# Altium footprint library BGA (1.5mm Pitch, Square4).PcbLib: 12 footprints (part 3 of 4)
Each footprint in its own frame and in the unit in brackets; x right, y up, seen from the top. Pads: shape width x height; smd on the part's side, far side on the other; paste and mask are expansions set on the pad; w line width, h text height; cw(c..) or ccw(c..) is an arc to the next point about the centre after c.
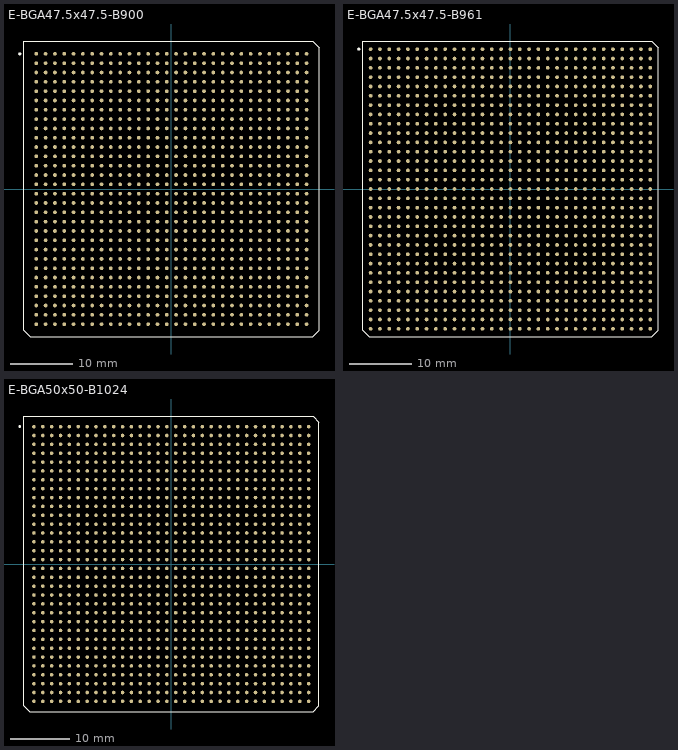
[diagram p2: the footprints below, top view; thin cyan lines are the x and y axes]

## E-BGA47.5x47.5-B900 [mm] "BGA; 900 Balls; Body 47.5 x 47.5 mm; Pitch 1.5 mm"
height 3.5
pads (900):
  round 0.6 smd: A1(-21.75,21.75) A2(-20.25,21.75) A3(-18.75,21.75) A4(-17.25,21.75) A5(-15.75,21.75) A6(-14.25,21.75) A7(-12.75,21.75) A8(-11.25,21.75) A9(-9.75,21.75) A10(-8.25,21.75) A11(-6.75,21.75) A12(-5.25,21.75) A13(-3.75,21.75) A14(-2.25,21.75) A15(-0.75,21.75) A16(0.75,21.75) A17(2.25,21.75) A18(3.75,21.75) A19(5.25,21.75) A20(6.75,21.75) A21(8.25,21.75) A22(9.75,21.75) A23(11.25,21.75) A24(12.75,21.75) A25(14.25,21.75) A26(15.75,21.75) A27(17.25,21.75) A28(18.75,21.75) A29(20.25,21.75) A30(21.75,21.75) AA1(-21.75,-8.25) AA2(-20.25,-8.25) AA3(-18.75,-8.25) AA4(-17.25,-8.25) AA5(-15.75,-8.25) AA6(-14.25,-8.25) AA7(-12.75,-8.25) AA8(-11.25,-8.25) AA9(-9.75,-8.25) AA10(-8.25,-8.25) AA11(-6.75,-8.25) AA12(-5.25,-8.25) AA13(-3.75,-8.25) AA14(-2.25,-8.25) AA15(-0.75,-8.25) AA16(0.75,-8.25) AA17(2.25,-8.25) AA18(3.75,-8.25) AA19(5.25,-8.25) AA20(6.75,-8.25) AA21(8.25,-8.25) AA22(9.75,-8.25) AA23(11.25,-8.25) AA24(12.75,-8.25) AA25(14.25,-8.25) AA26(15.75,-8.25) AA27(17.25,-8.25) AA28(18.75,-8.25) AA29(20.25,-8.25) AA30(21.75,-8.25) AB1(-21.75,-9.75) AB2(-20.25,-9.75) AB3(-18.75,-9.75) AB4(-17.25,-9.75) AB5(-15.75,-9.75) AB6(-14.25,-9.75) AB7(-12.75,-9.75) AB8(-11.25,-9.75) AB9(-9.75,-9.75) AB10(-8.25,-9.75) AB11(-6.75,-9.75) AB12(-5.25,-9.75) AB13(-3.75,-9.75) AB14(-2.25,-9.75) AB15(-0.75,-9.75) AB16(0.75,-9.75) AB17(2.25,-9.75) AB18(3.75,-9.75) AB19(5.25,-9.75) AB20(6.75,-9.75) AB21(8.25,-9.75) AB22(9.75,-9.75) AB23(11.25,-9.75) AB24(12.75,-9.75) AB25(14.25,-9.75) AB26(15.75,-9.75) AB27(17.25,-9.75) AB28(18.75,-9.75) AB29(20.25,-9.75) AB30(21.75,-9.75) AC1(-21.75,-11.25) AC2(-20.25,-11.25) AC3(-18.75,-11.25) AC4(-17.25,-11.25) AC5(-15.75,-11.25) AC6(-14.25,-11.25) AC7(-12.75,-11.25) AC8(-11.25,-11.25) AC9(-9.75,-11.25) AC10(-8.25,-11.25) AC11(-6.75,-11.25) AC12(-5.25,-11.25) AC13(-3.75,-11.25) AC14(-2.25,-11.25) AC15(-0.75,-11.25) AC16(0.75,-11.25) AC17(2.25,-11.25) AC18(3.75,-11.25) AC19(5.25,-11.25) AC20(6.75,-11.25) AC21(8.25,-11.25) AC22(9.75,-11.25) AC23(11.25,-11.25) AC24(12.75,-11.25) AC25(14.25,-11.25) AC26(15.75,-11.25) AC27(17.25,-11.25) AC28(18.75,-11.25) AC29(20.25,-11.25) AC30(21.75,-11.25) AD1(-21.75,-12.75) AD2(-20.25,-12.75) AD3(-18.75,-12.75) AD4(-17.25,-12.75) AD5(-15.75,-12.75) AD6(-14.25,-12.75) AD7(-12.75,-12.75) AD8(-11.25,-12.75) AD9(-9.75,-12.75) AD10(-8.25,-12.75) AD11(-6.75,-12.75) AD12(-5.25,-12.75) AD13(-3.75,-12.75) AD14(-2.25,-12.75) AD15(-0.75,-12.75) AD16(0.75,-12.75) AD17(2.25,-12.75) AD18(3.75,-12.75) AD19(5.25,-12.75) AD20(6.75,-12.75) AD21(8.25,-12.75) AD22(9.75,-12.75) AD23(11.25,-12.75) AD24(12.75,-12.75) AD25(14.25,-12.75) AD26(15.75,-12.75) AD27(17.25,-12.75) AD28(18.75,-12.75) AD29(20.25,-12.75) AD30(21.75,-12.75) AE1(-21.75,-14.25) AE2(-20.25,-14.25) AE3(-18.75,-14.25) AE4(-17.25,-14.25) AE5(-15.75,-14.25) AE6(-14.25,-14.25) AE7(-12.75,-14.25) AE8(-11.25,-14.25) AE9(-9.75,-14.25) AE10(-8.25,-14.25) AE11(-6.75,-14.25) AE12(-5.25,-14.25) AE13(-3.75,-14.25) AE14(-2.25,-14.25) AE15(-0.75,-14.25) AE16(0.75,-14.25) AE17(2.25,-14.25) AE18(3.75,-14.25) AE19(5.25,-14.25) AE20(6.75,-14.25) AE21(8.25,-14.25) AE22(9.75,-14.25) AE23(11.25,-14.25) AE24(12.75,-14.25) AE25(14.25,-14.25) AE26(15.75,-14.25) AE27(17.25,-14.25) AE28(18.75,-14.25) AE29(20.25,-14.25) AE30(21.75,-14.25) AF1(-21.75,-15.75) AF2(-20.25,-15.75) AF3(-18.75,-15.75) AF4(-17.25,-15.75) AF5(-15.75,-15.75) AF6(-14.25,-15.75) AF7(-12.75,-15.75) AF8(-11.25,-15.75) AF9(-9.75,-15.75) AF10(-8.25,-15.75) AF11(-6.75,-15.75) AF12(-5.25,-15.75) AF13(-3.75,-15.75) AF14(-2.25,-15.75) AF15(-0.75,-15.75) AF16(0.75,-15.75) AF17(2.25,-15.75) AF18(3.75,-15.75) AF19(5.25,-15.75) AF20(6.75,-15.75) AF21(8.25,-15.75) AF22(9.75,-15.75) AF23(11.25,-15.75) AF24(12.75,-15.75) AF25(14.25,-15.75) AF26(15.75,-15.75) AF27(17.25,-15.75) AF28(18.75,-15.75) AF29(20.25,-15.75) AF30(21.75,-15.75) AG1(-21.75,-17.25) AG2(-20.25,-17.25) AG3(-18.75,-17.25) AG4(-17.25,-17.25) AG5(-15.75,-17.25) AG6(-14.25,-17.25) AG7(-12.75,-17.25) AG8(-11.25,-17.25) AG9(-9.75,-17.25) AG10(-8.25,-17.25) AG11(-6.75,-17.25) AG12(-5.25,-17.25) AG13(-3.75,-17.25) AG14(-2.25,-17.25) AG15(-0.75,-17.25) AG16(0.75,-17.25) AG17(2.25,-17.25) AG18(3.75,-17.25) AG19(5.25,-17.25) AG20(6.75,-17.25) AG21(8.25,-17.25) AG22(9.75,-17.25) AG23(11.25,-17.25) AG24(12.75,-17.25) AG25(14.25,-17.25) AG26(15.75,-17.25) AG27(17.25,-17.25) AG28(18.75,-17.25) AG29(20.25,-17.25) AG30(21.75,-17.25) AH1(-21.75,-18.75) AH2(-20.25,-18.75) AH3(-18.75,-18.75) AH4(-17.25,-18.75) AH5(-15.75,-18.75) AH6(-14.25,-18.75) AH7(-12.75,-18.75) AH8(-11.25,-18.75) AH9(-9.75,-18.75) AH10(-8.25,-18.75) AH11(-6.75,-18.75) AH12(-5.25,-18.75) AH13(-3.75,-18.75) AH14(-2.25,-18.75) AH15(-0.75,-18.75) AH16(0.75,-18.75) AH17(2.25,-18.75) AH18(3.75,-18.75) AH19(5.25,-18.75) AH20(6.75,-18.75) AH21(8.25,-18.75) AH22(9.75,-18.75) AH23(11.25,-18.75) AH24(12.75,-18.75) AH25(14.25,-18.75) AH26(15.75,-18.75) AH27(17.25,-18.75) AH28(18.75,-18.75) AH29(20.25,-18.75) AH30(21.75,-18.75) AJ1(-21.75,-20.25) AJ2(-20.25,-20.25) AJ3(-18.75,-20.25) AJ4(-17.25,-20.25) AJ5(-15.75,-20.25) AJ6(-14.25,-20.25) AJ7(-12.75,-20.25) AJ8(-11.25,-20.25) AJ9(-9.75,-20.25) AJ10(-8.25,-20.25) AJ11(-6.75,-20.25) AJ12(-5.25,-20.25) AJ13(-3.75,-20.25) AJ14(-2.25,-20.25) AJ15(-0.75,-20.25) AJ16(0.75,-20.25) AJ17(2.25,-20.25) AJ18(3.75,-20.25) AJ19(5.25,-20.25) AJ20(6.75,-20.25) AJ21(8.25,-20.25) AJ22(9.75,-20.25) AJ23(11.25,-20.25) AJ24(12.75,-20.25) AJ25(14.25,-20.25) AJ26(15.75,-20.25) AJ27(17.25,-20.25) AJ28(18.75,-20.25) AJ29(20.25,-20.25) AJ30(21.75,-20.25) AK1(-21.75,-21.75) AK2(-20.25,-21.75) AK3(-18.75,-21.75) AK4(-17.25,-21.75) AK5(-15.75,-21.75) AK6(-14.25,-21.75) AK7(-12.75,-21.75) AK8(-11.25,-21.75) AK9(-9.75,-21.75) AK10(-8.25,-21.75) AK11(-6.75,-21.75) AK12(-5.25,-21.75) AK13(-3.75,-21.75) AK14(-2.25,-21.75) AK15(-0.75,-21.75) AK16(0.75,-21.75) AK17(2.25,-21.75) AK18(3.75,-21.75) AK19(5.25,-21.75) AK20(6.75,-21.75) AK21(8.25,-21.75) AK22(9.75,-21.75) AK23(11.25,-21.75) AK24(12.75,-21.75) AK25(14.25,-21.75) AK26(15.75,-21.75) AK27(17.25,-21.75) AK28(18.75,-21.75) AK29(20.25,-21.75) AK30(21.75,-21.75) B1(-21.75,20.25) B2(-20.25,20.25) B3(-18.75,20.25) B4(-17.25,20.25) B5(-15.75,20.25) B6(-14.25,20.25) B7(-12.75,20.25) B8(-11.25,20.25) B9(-9.75,20.25) B10(-8.25,20.25) B11(-6.75,20.25) B12(-5.25,20.25) B13(-3.75,20.25) B14(-2.25,20.25) B15(-0.75,20.25) B16(0.75,20.25) B17(2.25,20.25) B18(3.75,20.25) B19(5.25,20.25) B20(6.75,20.25) B21(8.25,20.25) B22(9.75,20.25) B23(11.25,20.25) B24(12.75,20.25) B25(14.25,20.25) B26(15.75,20.25) B27(17.25,20.25) B28(18.75,20.25) B29(20.25,20.25) B30(21.75,20.25) C1(-21.75,18.75) C2(-20.25,18.75) C3(-18.75,18.75) C4(-17.25,18.75) C5(-15.75,18.75) C6(-14.25,18.75) C7(-12.75,18.75) C8(-11.25,18.75) C9(-9.75,18.75) C10(-8.25,18.75) C11(-6.75,18.75) C12(-5.25,18.75) C13(-3.75,18.75) C14(-2.25,18.75) C15(-0.75,18.75) C16(0.75,18.75) C17(2.25,18.75) C18(3.75,18.75) C19(5.25,18.75) C20(6.75,18.75) C21(8.25,18.75) C22(9.75,18.75) C23(11.25,18.75) C24(12.75,18.75) C25(14.25,18.75) C26(15.75,18.75) C27(17.25,18.75) C28(18.75,18.75) C29(20.25,18.75) C30(21.75,18.75) D1(-21.75,17.25) D2(-20.25,17.25) D3(-18.75,17.25) D4(-17.25,17.25) D5(-15.75,17.25) D6(-14.25,17.25) D7(-12.75,17.25) D8(-11.25,17.25) D9(-9.75,17.25) D10(-8.25,17.25) D11(-6.75,17.25) D12(-5.25,17.25) D13(-3.75,17.25) D14(-2.25,17.25) D15(-0.75,17.25) D16(0.75,17.25) D17(2.25,17.25) D18(3.75,17.25) D19(5.25,17.25) D20(6.75,17.25) D21(8.25,17.25) D22(9.75,17.25) D23(11.25,17.25) D24(12.75,17.25) D25(14.25,17.25) D26(15.75,17.25) D27(17.25,17.25) D28(18.75,17.25) D29(20.25,17.25) D30(21.75,17.25) E1(-21.75,15.75) E2(-20.25,15.75) E3(-18.75,15.75) E4(-17.25,15.75) E5(-15.75,15.75) E6(-14.25,15.75) E7(-12.75,15.75) E8(-11.25,15.75) E9(-9.75,15.75) E10(-8.25,15.75) E11(-6.75,15.75) E12(-5.25,15.75) E13(-3.75,15.75) E14(-2.25,15.75) E15(-0.75,15.75) E16(0.75,15.75) E17(2.25,15.75) E18(3.75,15.75) E19(5.25,15.75) E20(6.75,15.75) E21(8.25,15.75) E22(9.75,15.75) E23(11.25,15.75) E24(12.75,15.75) E25(14.25,15.75) E26(15.75,15.75) E27(17.25,15.75) E28(18.75,15.75) E29(20.25,15.75) E30(21.75,15.75) F1(-21.75,14.25) F2(-20.25,14.25) F3(-18.75,14.25) F4(-17.25,14.25) F5(-15.75,14.25) F6(-14.25,14.25) F7(-12.75,14.25) F8(-11.25,14.25) F9(-9.75,14.25) F10(-8.25,14.25) F11(-6.75,14.25) F12(-5.25,14.25) F13(-3.75,14.25) F14(-2.25,14.25) F15(-0.75,14.25) F16(0.75,14.25) F17(2.25,14.25) F18(3.75,14.25) F19(5.25,14.25) F20(6.75,14.25) F21(8.25,14.25) F22(9.75,14.25) F23(11.25,14.25) F24(12.75,14.25) F25(14.25,14.25) F26(15.75,14.25) F27(17.25,14.25) F28(18.75,14.25) F29(20.25,14.25) F30(21.75,14.25) G1(-21.75,12.75) G2(-20.25,12.75) G3(-18.75,12.75) G4(-17.25,12.75) G5(-15.75,12.75) G6(-14.25,12.75) G7(-12.75,12.75) G8(-11.25,12.75) G9(-9.75,12.75) G10(-8.25,12.75) G11(-6.75,12.75) G12(-5.25,12.75) G13(-3.75,12.75) G14(-2.25,12.75) G15(-0.75,12.75) G16(0.75,12.75) G17(2.25,12.75) G18(3.75,12.75) G19(5.25,12.75) G20(6.75,12.75) G21(8.25,12.75) G22(9.75,12.75) G23(11.25,12.75) G24(12.75,12.75) G25(14.25,12.75) G26(15.75,12.75) G27(17.25,12.75) G28(18.75,12.75) G29(20.25,12.75) G30(21.75,12.75) H1(-21.75,11.25) H2(-20.25,11.25) H3(-18.75,11.25) H4(-17.25,11.25) H5(-15.75,11.25) H6(-14.25,11.25) H7(-12.75,11.25) H8(-11.25,11.25) H9(-9.75,11.25) H10(-8.25,11.25) H11(-6.75,11.25) H12(-5.25,11.25) H13(-3.75,11.25) H14(-2.25,11.25) H15(-0.75,11.25) H16(0.75,11.25) H17(2.25,11.25) H18(3.75,11.25) H19(5.25,11.25) H20(6.75,11.25) H21(8.25,11.25) H22(9.75,11.25) H23(11.25,11.25) H24(12.75,11.25) H25(14.25,11.25) H26(15.75,11.25) H27(17.25,11.25) H28(18.75,11.25) H29(20.25,11.25) H30(21.75,11.25) J1(-21.75,9.75) J2(-20.25,9.75) J3(-18.75,9.75) J4(-17.25,9.75) J5(-15.75,9.75) J6(-14.25,9.75) J7(-12.75,9.75) J8(-11.25,9.75) J9(-9.75,9.75) J10(-8.25,9.75) J11(-6.75,9.75) J12(-5.25,9.75) J13(-3.75,9.75) J14(-2.25,9.75) J15(-0.75,9.75) J16(0.75,9.75) J17(2.25,9.75) J18(3.75,9.75) J19(5.25,9.75) J20(6.75,9.75) J21(8.25,9.75) J22(9.75,9.75) J23(11.25,9.75) J24(12.75,9.75) J25(14.25,9.75) J26(15.75,9.75) J27(17.25,9.75) J28(18.75,9.75) J29(20.25,9.75) J30(21.75,9.75) K1(-21.75,8.25) K2(-20.25,8.25) K3(-18.75,8.25) K4(-17.25,8.25) K5(-15.75,8.25) K6(-14.25,8.25) K7(-12.75,8.25) K8(-11.25,8.25) K9(-9.75,8.25) K10(-8.25,8.25) K11(-6.75,8.25) K12(-5.25,8.25) K13(-3.75,8.25) K14(-2.25,8.25) K15(-0.75,8.25) K16(0.75,8.25) K17(2.25,8.25) K18(3.75,8.25) K19(5.25,8.25) K20(6.75,8.25) K21(8.25,8.25) K22(9.75,8.25) K23(11.25,8.25) K24(12.75,8.25) K25(14.25,8.25) K26(15.75,8.25) K27(17.25,8.25) K28(18.75,8.25) K29(20.25,8.25) K30(21.75,8.25) L1(-21.75,6.75) L2(-20.25,6.75) L3(-18.75,6.75) L4(-17.25,6.75) L5(-15.75,6.75) L6(-14.25,6.75) L7(-12.75,6.75) L8(-11.25,6.75) L9(-9.75,6.75) L10(-8.25,6.75) L11(-6.75,6.75) L12(-5.25,6.75) L13(-3.75,6.75) L14(-2.25,6.75) L15(-0.75,6.75) L16(0.75,6.75) L17(2.25,6.75) L18(3.75,6.75) L19(5.25,6.75) L20(6.75,6.75) L21(8.25,6.75) L22(9.75,6.75) L23(11.25,6.75) L24(12.75,6.75) L25(14.25,6.75) L26(15.75,6.75) L27(17.25,6.75) L28(18.75,6.75) L29(20.25,6.75) L30(21.75,6.75) M1(-21.75,5.25) M2(-20.25,5.25) M3(-18.75,5.25) M4(-17.25,5.25) M5(-15.75,5.25) M6(-14.25,5.25) M7(-12.75,5.25) M8(-11.25,5.25) M9(-9.75,5.25) M10(-8.25,5.25) M11(-6.75,5.25) M12(-5.25,5.25) M13(-3.75,5.25) M14(-2.25,5.25) M15(-0.75,5.25) M16(0.75,5.25) M17(2.25,5.25) M18(3.75,5.25) M19(5.25,5.25) M20(6.75,5.25) M21(8.25,5.25) M22(9.75,5.25) M23(11.25,5.25) M24(12.75,5.25) M25(14.25,5.25) M26(15.75,5.25) M27(17.25,5.25) M28(18.75,5.25) M29(20.25,5.25) M30(21.75,5.25) N1(-21.75,3.75) N2(-20.25,3.75) N3(-18.75,3.75) N4(-17.25,3.75) N5(-15.75,3.75) N6(-14.25,3.75) N7(-12.75,3.75) N8(-11.25,3.75) N9(-9.75,3.75) N10(-8.25,3.75) N11(-6.75,3.75) N12(-5.25,3.75) N13(-3.75,3.75) N14(-2.25,3.75) N15(-0.75,3.75) N16(0.75,3.75) N17(2.25,3.75) N18(3.75,3.75) N19(5.25,3.75) N20(6.75,3.75) N21(8.25,3.75) N22(9.75,3.75) N23(11.25,3.75) N24(12.75,3.75) N25(14.25,3.75) N26(15.75,3.75) N27(17.25,3.75) N28(18.75,3.75) N29(20.25,3.75) N30(21.75,3.75) P1(-21.75,2.25) P2(-20.25,2.25) P3(-18.75,2.25) P4(-17.25,2.25) P5(-15.75,2.25) P6(-14.25,2.25) P7(-12.75,2.25) P8(-11.25,2.25) P9(-9.75,2.25) P10(-8.25,2.25) P11(-6.75,2.25) P12(-5.25,2.25) P13(-3.75,2.25) P14(-2.25,2.25) P15(-0.75,2.25) P16(0.75,2.25) P17(2.25,2.25) P18(3.75,2.25) P19(5.25,2.25) P20(6.75,2.25) P21(8.25,2.25) P22(9.75,2.25) P23(11.25,2.25) P24(12.75,2.25) P25(14.25,2.25) P26(15.75,2.25) P27(17.25,2.25) P28(18.75,2.25) P29(20.25,2.25) P30(21.75,2.25) R1(-21.75,0.75) R2(-20.25,0.75) R3(-18.75,0.75) R4(-17.25,0.75) R5(-15.75,0.75) R6(-14.25,0.75) R7(-12.75,0.75) R8(-11.25,0.75) R9(-9.75,0.75) R10(-8.25,0.75) R11(-6.75,0.75) R12(-5.25,0.75) R13(-3.75,0.75) R14(-2.25,0.75) R15(-0.75,0.75) R16(0.75,0.75) R17(2.25,0.75) R18(3.75,0.75) R19(5.25,0.75) R20(6.75,0.75) R21(8.25,0.75) R22(9.75,0.75) R23(11.25,0.75) R24(12.75,0.75) R25(14.25,0.75) R26(15.75,0.75) R27(17.25,0.75) R28(18.75,0.75) R29(20.25,0.75) R30(21.75,0.75) T1(-21.75,-0.75) T2(-20.25,-0.75) T3(-18.75,-0.75) T4(-17.25,-0.75) T5(-15.75,-0.75) T6(-14.25,-0.75) T7(-12.75,-0.75) T8(-11.25,-0.75) T9(-9.75,-0.75) T10(-8.25,-0.75) T11(-6.75,-0.75) T12(-5.25,-0.75) T13(-3.75,-0.75) T14(-2.25,-0.75) T15(-0.75,-0.75) T16(0.75,-0.75) T17(2.25,-0.75) T18(3.75,-0.75) T19(5.25,-0.75) T20(6.75,-0.75) T21(8.25,-0.75) T22(9.75,-0.75) T23(11.25,-0.75) T24(12.75,-0.75) T25(14.25,-0.75) T26(15.75,-0.75) T27(17.25,-0.75) T28(18.75,-0.75) T29(20.25,-0.75) T30(21.75,-0.75) U1(-21.75,-2.25) U2(-20.25,-2.25) U3(-18.75,-2.25) U4(-17.25,-2.25) U5(-15.75,-2.25) U6(-14.25,-2.25) U7(-12.75,-2.25) U8(-11.25,-2.25) U9(-9.75,-2.25) U10(-8.25,-2.25) U11(-6.75,-2.25) U12(-5.25,-2.25) U13(-3.75,-2.25) U14(-2.25,-2.25) U15(-0.75,-2.25) U16(0.75,-2.25) U17(2.25,-2.25) U18(3.75,-2.25) U19(5.25,-2.25) U20(6.75,-2.25) U21(8.25,-2.25) U22(9.75,-2.25) U23(11.25,-2.25) U24(12.75,-2.25) U25(14.25,-2.25) U26(15.75,-2.25) U27(17.25,-2.25) U28(18.75,-2.25) U29(20.25,-2.25) U30(21.75,-2.25) V1(-21.75,-3.75) V2(-20.25,-3.75) V3(-18.75,-3.75) V4(-17.25,-3.75) V5(-15.75,-3.75) V6(-14.25,-3.75) V7(-12.75,-3.75) V8(-11.25,-3.75) V9(-9.75,-3.75) V10(-8.25,-3.75) V11(-6.75,-3.75) V12(-5.25,-3.75) V13(-3.75,-3.75) V14(-2.25,-3.75) V15(-0.75,-3.75) V16(0.75,-3.75) V17(2.25,-3.75) V18(3.75,-3.75) V19(5.25,-3.75) V20(6.75,-3.75) V21(8.25,-3.75) V22(9.75,-3.75) V23(11.25,-3.75) V24(12.75,-3.75) V25(14.25,-3.75) V26(15.75,-3.75) V27(17.25,-3.75) V28(18.75,-3.75) V29(20.25,-3.75) V30(21.75,-3.75) W1(-21.75,-5.25) W2(-20.25,-5.25) W3(-18.75,-5.25) W4(-17.25,-5.25) W5(-15.75,-5.25) W6(-14.25,-5.25) W7(-12.75,-5.25) W8(-11.25,-5.25) W9(-9.75,-5.25) W10(-8.25,-5.25) W11(-6.75,-5.25) W12(-5.25,-5.25) W13(-3.75,-5.25) W14(-2.25,-5.25) W15(-0.75,-5.25) W16(0.75,-5.25) W17(2.25,-5.25) W18(3.75,-5.25) W19(5.25,-5.25) W20(6.75,-5.25) W21(8.25,-5.25) W22(9.75,-5.25) W23(11.25,-5.25) W24(12.75,-5.25) W25(14.25,-5.25) W26(15.75,-5.25) W27(17.25,-5.25) W28(18.75,-5.25) W29(20.25,-5.25) W30(21.75,-5.25) Y1(-21.75,-6.75) Y2(-20.25,-6.75) Y3(-18.75,-6.75) Y4(-17.25,-6.75) Y5(-15.75,-6.75) Y6(-14.25,-6.75) Y7(-12.75,-6.75) Y8(-11.25,-6.75) Y9(-9.75,-6.75) Y10(-8.25,-6.75) Y11(-6.75,-6.75) Y12(-5.25,-6.75) Y13(-3.75,-6.75) Y14(-2.25,-6.75) Y15(-0.75,-6.75) Y16(0.75,-6.75) Y17(2.25,-6.75) Y18(3.75,-6.75) Y19(5.25,-6.75) Y20(6.75,-6.75) Y21(8.25,-6.75) Y22(9.75,-6.75) Y23(11.25,-6.75) Y24(12.75,-6.75) Y25(14.25,-6.75) Y26(15.75,-6.75) Y27(17.25,-6.75) Y28(18.75,-6.75) Y29(20.25,-6.75) Y30(21.75,-6.75)
Top Overlay:
  circle w0.25: c-24.405,21.75 r0.125
  lines w0.2: -23.75,-22.75 -22.75,-23.75 22.75,-23.75 23.75,-22.75 23.75,22.75 22.75,23.75 -23.75,23.75 -23.75,-22.75

## E-BGA47.5x47.5-B961 [mm] "BGA; 961 Balls; Body 47.5 x 47.5 mm; Pitch 1.5 mm"
height 3.5
pads (961):
  round 0.6 smd: A1(-22.5,22.5) A2(-21,22.5) A3(-19.5,22.5) A4(-18,22.5) A5(-16.5,22.5) A6(-15,22.5) A7(-13.5,22.5) A8(-12,22.5) A9(-10.5,22.5) A10(-9,22.5) A11(-7.5,22.5) A12(-6,22.5) A13(-4.5,22.5) A14(-3,22.5) A15(-1.5,22.5) A16(0,22.5) A17(1.5,22.5) A18(3,22.5) A19(4.5,22.5) A20(6,22.5) A21(7.5,22.5) A22(9,22.5) A23(10.5,22.5) A24(12,22.5) A25(13.5,22.5) A26(15,22.5) A27(16.5,22.5) A28(18,22.5) A29(19.5,22.5) A30(21,22.5) A31(22.5,22.5) AA1(-22.5,-7.5) AA2(-21,-7.5) AA3(-19.5,-7.5) AA4(-18,-7.5) AA5(-16.5,-7.5) AA6(-15,-7.5) AA7(-13.5,-7.5) AA8(-12,-7.5) AA9(-10.5,-7.5) AA10(-9,-7.5) AA11(-7.5,-7.5) AA12(-6,-7.5) AA13(-4.5,-7.5) AA14(-3,-7.5) AA15(-1.5,-7.5) AA16(0,-7.5) AA17(1.5,-7.5) AA18(3,-7.5) AA19(4.5,-7.5) AA20(6,-7.5) AA21(7.5,-7.5) AA22(9,-7.5) AA23(10.5,-7.5) AA24(12,-7.5) AA25(13.5,-7.5) AA26(15,-7.5) AA27(16.5,-7.5) AA28(18,-7.5) AA29(19.5,-7.5) AA30(21,-7.5) AA31(22.5,-7.5) AB1(-22.5,-9) AB2(-21,-9) AB3(-19.5,-9) AB4(-18,-9) AB5(-16.5,-9) AB6(-15,-9) AB7(-13.5,-9) AB8(-12,-9) AB9(-10.5,-9) AB10(-9,-9) AB11(-7.5,-9) AB12(-6,-9) AB13(-4.5,-9) AB14(-3,-9) AB15(-1.5,-9) AB16(0,-9) AB17(1.5,-9) AB18(3,-9) AB19(4.5,-9) AB20(6,-9) AB21(7.5,-9) AB22(9,-9) AB23(10.5,-9) AB24(12,-9) AB25(13.5,-9) AB26(15,-9) AB27(16.5,-9) AB28(18,-9) AB29(19.5,-9) AB30(21,-9) AB31(22.5,-9) AC1(-22.5,-10.5) AC2(-21,-10.5) AC3(-19.5,-10.5) AC4(-18,-10.5) AC5(-16.5,-10.5) AC6(-15,-10.5) AC7(-13.5,-10.5) AC8(-12,-10.5) AC9(-10.5,-10.5) AC10(-9,-10.5) AC11(-7.5,-10.5) AC12(-6,-10.5) AC13(-4.5,-10.5) AC14(-3,-10.5) AC15(-1.5,-10.5) AC16(0,-10.5) AC17(1.5,-10.5) AC18(3,-10.5) AC19(4.5,-10.5) AC20(6,-10.5) AC21(7.5,-10.5) AC22(9,-10.5) AC23(10.5,-10.5) AC24(12,-10.5) AC25(13.5,-10.5) AC26(15,-10.5) AC27(16.5,-10.5) AC28(18,-10.5) AC29(19.5,-10.5) AC30(21,-10.5) AC31(22.5,-10.5) AD1(-22.5,-12) AD2(-21,-12) AD3(-19.5,-12) AD4(-18,-12) AD5(-16.5,-12) AD6(-15,-12) AD7(-13.5,-12) AD8(-12,-12) AD9(-10.5,-12) AD10(-9,-12) AD11(-7.5,-12) AD12(-6,-12) AD13(-4.5,-12) AD14(-3,-12) AD15(-1.5,-12) AD16(0,-12) AD17(1.5,-12) AD18(3,-12) AD19(4.5,-12) AD20(6,-12) AD21(7.5,-12) AD22(9,-12) AD23(10.5,-12) AD24(12,-12) AD25(13.5,-12) AD26(15,-12) AD27(16.5,-12) AD28(18,-12) AD29(19.5,-12) AD30(21,-12) AD31(22.5,-12) AE1(-22.5,-13.5) AE2(-21,-13.5) AE3(-19.5,-13.5) AE4(-18,-13.5) AE5(-16.5,-13.5) AE6(-15,-13.5) AE7(-13.5,-13.5) AE8(-12,-13.5) AE9(-10.5,-13.5) AE10(-9,-13.5) AE11(-7.5,-13.5) AE12(-6,-13.5) AE13(-4.5,-13.5) AE14(-3,-13.5) AE15(-1.5,-13.5) AE16(0,-13.5) AE17(1.5,-13.5) AE18(3,-13.5) AE19(4.5,-13.5) AE20(6,-13.5) AE21(7.5,-13.5) AE22(9,-13.5) AE23(10.5,-13.5) AE24(12,-13.5) AE25(13.5,-13.5) AE26(15,-13.5) AE27(16.5,-13.5) AE28(18,-13.5) AE29(19.5,-13.5) AE30(21,-13.5) AE31(22.5,-13.5) AF1(-22.5,-15) AF2(-21,-15) AF3(-19.5,-15) AF4(-18,-15) AF5(-16.5,-15) AF6(-15,-15) AF7(-13.5,-15) AF8(-12,-15) AF9(-10.5,-15) AF10(-9,-15) AF11(-7.5,-15) AF12(-6,-15) AF13(-4.5,-15) AF14(-3,-15) AF15(-1.5,-15) AF16(0,-15) AF17(1.5,-15) AF18(3,-15) AF19(4.5,-15) AF20(6,-15) AF21(7.5,-15) AF22(9,-15) AF23(10.5,-15) AF24(12,-15) AF25(13.5,-15) AF26(15,-15) AF27(16.5,-15) AF28(18,-15) AF29(19.5,-15) AF30(21,-15) AF31(22.5,-15) AG1(-22.5,-16.5) AG2(-21,-16.5) AG3(-19.5,-16.5) AG4(-18,-16.5) AG5(-16.5,-16.5) AG6(-15,-16.5) AG7(-13.5,-16.5) AG8(-12,-16.5) AG9(-10.5,-16.5) AG10(-9,-16.5) AG11(-7.5,-16.5) AG12(-6,-16.5) AG13(-4.5,-16.5) AG14(-3,-16.5) AG15(-1.5,-16.5) AG16(0,-16.5) AG17(1.5,-16.5) AG18(3,-16.5) AG19(4.5,-16.5) AG20(6,-16.5) AG21(7.5,-16.5) AG22(9,-16.5) AG23(10.5,-16.5) AG24(12,-16.5) AG25(13.5,-16.5) AG26(15,-16.5) AG27(16.5,-16.5) AG28(18,-16.5) AG29(19.5,-16.5) AG30(21,-16.5) AG31(22.5,-16.5) AH1(-22.5,-18) AH2(-21,-18) AH3(-19.5,-18) AH4(-18,-18) AH5(-16.5,-18) AH6(-15,-18) AH7(-13.5,-18) AH8(-12,-18) AH9(-10.5,-18) AH10(-9,-18) AH11(-7.5,-18) AH12(-6,-18) AH13(-4.5,-18) AH14(-3,-18) AH15(-1.5,-18) AH16(0,-18) AH17(1.5,-18) AH18(3,-18) AH19(4.5,-18) AH20(6,-18) AH21(7.5,-18) AH22(9,-18) AH23(10.5,-18) AH24(12,-18) AH25(13.5,-18) AH26(15,-18) AH27(16.5,-18) AH28(18,-18) AH29(19.5,-18) AH30(21,-18) AH31(22.5,-18) AJ1(-22.5,-19.5) AJ2(-21,-19.5) AJ3(-19.5,-19.5) AJ4(-18,-19.5) AJ5(-16.5,-19.5) AJ6(-15,-19.5) AJ7(-13.5,-19.5) AJ8(-12,-19.5) AJ9(-10.5,-19.5) AJ10(-9,-19.5) AJ11(-7.5,-19.5) AJ12(-6,-19.5) AJ13(-4.5,-19.5) AJ14(-3,-19.5) AJ15(-1.5,-19.5) AJ16(0,-19.5) AJ17(1.5,-19.5) AJ18(3,-19.5) AJ19(4.5,-19.5) AJ20(6,-19.5) AJ21(7.5,-19.5) AJ22(9,-19.5) AJ23(10.5,-19.5) AJ24(12,-19.5) AJ25(13.5,-19.5) AJ26(15,-19.5) AJ27(16.5,-19.5) AJ28(18,-19.5) AJ29(19.5,-19.5) AJ30(21,-19.5) AJ31(22.5,-19.5) AK1(-22.5,-21) AK2(-21,-21) AK3(-19.5,-21) AK4(-18,-21) AK5(-16.5,-21) AK6(-15,-21) AK7(-13.5,-21) AK8(-12,-21) AK9(-10.5,-21) AK10(-9,-21) AK11(-7.5,-21) AK12(-6,-21) AK13(-4.5,-21) AK14(-3,-21) AK15(-1.5,-21) AK16(0,-21) AK17(1.5,-21) AK18(3,-21) AK19(4.5,-21) AK20(6,-21) AK21(7.5,-21) AK22(9,-21) AK23(10.5,-21) AK24(12,-21) AK25(13.5,-21) AK26(15,-21) AK27(16.5,-21) AK28(18,-21) AK29(19.5,-21) AK30(21,-21) AK31(22.5,-21) AL1(-22.5,-22.5) AL2(-21,-22.5) AL3(-19.5,-22.5) AL4(-18,-22.5) AL5(-16.5,-22.5) AL6(-15,-22.5) AL7(-13.5,-22.5) AL8(-12,-22.5) AL9(-10.5,-22.5) AL10(-9,-22.5) AL11(-7.5,-22.5) AL12(-6,-22.5) AL13(-4.5,-22.5) AL14(-3,-22.5) AL15(-1.5,-22.5) AL16(0,-22.5) AL17(1.5,-22.5) AL18(3,-22.5) AL19(4.5,-22.5) AL20(6,-22.5) AL21(7.5,-22.5) AL22(9,-22.5) AL23(10.5,-22.5) AL24(12,-22.5) AL25(13.5,-22.5) AL26(15,-22.5) AL27(16.5,-22.5) AL28(18,-22.5) AL29(19.5,-22.5) AL30(21,-22.5) AL31(22.5,-22.5) B1(-22.5,21) B2(-21,21) B3(-19.5,21) B4(-18,21) B5(-16.5,21) B6(-15,21) B7(-13.5,21) B8(-12,21) B9(-10.5,21) B10(-9,21) B11(-7.5,21) B12(-6,21) B13(-4.5,21) B14(-3,21) B15(-1.5,21) B16(0,21) B17(1.5,21) B18(3,21) B19(4.5,21) B20(6,21) B21(7.5,21) B22(9,21) B23(10.5,21) B24(12,21) B25(13.5,21) B26(15,21) B27(16.5,21) B28(18,21) B29(19.5,21) B30(21,21) B31(22.5,21) C1(-22.5,19.5) C2(-21,19.5) C3(-19.5,19.5) C4(-18,19.5) C5(-16.5,19.5) C6(-15,19.5) C7(-13.5,19.5) C8(-12,19.5) C9(-10.5,19.5) C10(-9,19.5) C11(-7.5,19.5) C12(-6,19.5) C13(-4.5,19.5) C14(-3,19.5) C15(-1.5,19.5) C16(0,19.5) C17(1.5,19.5) C18(3,19.5) C19(4.5,19.5) C20(6,19.5) C21(7.5,19.5) C22(9,19.5) C23(10.5,19.5) C24(12,19.5) C25(13.5,19.5) C26(15,19.5) C27(16.5,19.5) C28(18,19.5) C29(19.5,19.5) C30(21,19.5) C31(22.5,19.5) D1(-22.5,18) D2(-21,18) D3(-19.5,18) D4(-18,18) D5(-16.5,18) D6(-15,18) D7(-13.5,18) D8(-12,18) D9(-10.5,18) D10(-9,18) D11(-7.5,18) D12(-6,18) D13(-4.5,18) D14(-3,18) D15(-1.5,18) D16(0,18) D17(1.5,18) D18(3,18) D19(4.5,18) D20(6,18) D21(7.5,18) D22(9,18) D23(10.5,18) D24(12,18) D25(13.5,18) D26(15,18) D27(16.5,18) D28(18,18) D29(19.5,18) D30(21,18) D31(22.5,18) E1(-22.5,16.5) E2(-21,16.5) E3(-19.5,16.5) E4(-18,16.5) E5(-16.5,16.5) E6(-15,16.5) E7(-13.5,16.5) E8(-12,16.5) E9(-10.5,16.5) E10(-9,16.5) E11(-7.5,16.5) E12(-6,16.5) E13(-4.5,16.5) E14(-3,16.5) E15(-1.5,16.5) E16(0,16.5) E17(1.5,16.5) E18(3,16.5) E19(4.5,16.5) E20(6,16.5) E21(7.5,16.5) E22(9,16.5) E23(10.5,16.5) E24(12,16.5) E25(13.5,16.5) E26(15,16.5) E27(16.5,16.5) E28(18,16.5) E29(19.5,16.5) E30(21,16.5) E31(22.5,16.5) F1(-22.5,15) F2(-21,15) F3(-19.5,15) F4(-18,15) F5(-16.5,15) F6(-15,15) F7(-13.5,15) F8(-12,15) F9(-10.5,15) F10(-9,15) F11(-7.5,15) F12(-6,15) F13(-4.5,15) F14(-3,15) F15(-1.5,15) F16(0,15) F17(1.5,15) F18(3,15) F19(4.5,15) F20(6,15) F21(7.5,15) F22(9,15) F23(10.5,15) F24(12,15) F25(13.5,15) F26(15,15) F27(16.5,15) F28(18,15) F29(19.5,15) F30(21,15) F31(22.5,15) G1(-22.5,13.5) G2(-21,13.5) G3(-19.5,13.5) G4(-18,13.5) G5(-16.5,13.5) G6(-15,13.5) G7(-13.5,13.5) G8(-12,13.5) G9(-10.5,13.5) G10(-9,13.5) G11(-7.5,13.5) G12(-6,13.5) G13(-4.5,13.5) G14(-3,13.5) G15(-1.5,13.5) G16(0,13.5) G17(1.5,13.5) G18(3,13.5) G19(4.5,13.5) G20(6,13.5) G21(7.5,13.5) G22(9,13.5) G23(10.5,13.5) G24(12,13.5) G25(13.5,13.5) G26(15,13.5) G27(16.5,13.5) G28(18,13.5) G29(19.5,13.5) G30(21,13.5) G31(22.5,13.5) H1(-22.5,12) H2(-21,12) H3(-19.5,12) H4(-18,12) H5(-16.5,12) H6(-15,12) H7(-13.5,12) H8(-12,12) H9(-10.5,12) H10(-9,12) H11(-7.5,12) H12(-6,12) H13(-4.5,12) H14(-3,12) H15(-1.5,12) H16(0,12) H17(1.5,12) H18(3,12) H19(4.5,12) H20(6,12) H21(7.5,12) H22(9,12) H23(10.5,12) H24(12,12) H25(13.5,12) H26(15,12) H27(16.5,12) H28(18,12) H29(19.5,12) H30(21,12) H31(22.5,12) J1(-22.5,10.5) J2(-21,10.5) J3(-19.5,10.5) J4(-18,10.5) J5(-16.5,10.5) J6(-15,10.5) J7(-13.5,10.5) J8(-12,10.5) J9(-10.5,10.5) J10(-9,10.5) J11(-7.5,10.5) J12(-6,10.5) J13(-4.5,10.5) J14(-3,10.5) J15(-1.5,10.5) J16(0,10.5) J17(1.5,10.5) J18(3,10.5) J19(4.5,10.5) J20(6,10.5) J21(7.5,10.5) J22(9,10.5) J23(10.5,10.5) J24(12,10.5) J25(13.5,10.5) J26(15,10.5) J27(16.5,10.5) J28(18,10.5) J29(19.5,10.5) J30(21,10.5) J31(22.5,10.5) K1(-22.5,9) K2(-21,9) K3(-19.5,9) K4(-18,9) K5(-16.5,9) K6(-15,9) K7(-13.5,9) K8(-12,9) K9(-10.5,9) K10(-9,9) K11(-7.5,9) K12(-6,9) K13(-4.5,9) K14(-3,9) K15(-1.5,9) K16(0,9) K17(1.5,9) K18(3,9) K19(4.5,9) K20(6,9) K21(7.5,9) K22(9,9) K23(10.5,9) K24(12,9) K25(13.5,9) K26(15,9) K27(16.5,9) K28(18,9) K29(19.5,9) K30(21,9) K31(22.5,9) L1(-22.5,7.5) L2(-21,7.5) L3(-19.5,7.5) L4(-18,7.5) L5(-16.5,7.5) L6(-15,7.5) L7(-13.5,7.5) L8(-12,7.5) L9(-10.5,7.5) L10(-9,7.5) L11(-7.5,7.5) L12(-6,7.5) L13(-4.5,7.5) L14(-3,7.5) L15(-1.5,7.5) L16(0,7.5) L17(1.5,7.5) L18(3,7.5) L19(4.5,7.5) L20(6,7.5) L21(7.5,7.5) L22(9,7.5) L23(10.5,7.5) L24(12,7.5) L25(13.5,7.5) L26(15,7.5) L27(16.5,7.5) L28(18,7.5) L29(19.5,7.5) L30(21,7.5) L31(22.5,7.5) M1(-22.5,6) M2(-21,6) M3(-19.5,6) M4(-18,6) M5(-16.5,6) M6(-15,6) M7(-13.5,6) M8(-12,6) M9(-10.5,6) M10(-9,6) M11(-7.5,6) M12(-6,6) M13(-4.5,6) M14(-3,6) M15(-1.5,6) M16(0,6) M17(1.5,6) M18(3,6) M19(4.5,6) M20(6,6) M21(7.5,6) M22(9,6) M23(10.5,6) M24(12,6) M25(13.5,6) M26(15,6) M27(16.5,6) M28(18,6) M29(19.5,6) M30(21,6) M31(22.5,6) N1(-22.5,4.5) N2(-21,4.5) N3(-19.5,4.5) N4(-18,4.5) N5(-16.5,4.5) N6(-15,4.5) N7(-13.5,4.5) N8(-12,4.5) N9(-10.5,4.5) N10(-9,4.5) N11(-7.5,4.5) N12(-6,4.5) N13(-4.5,4.5) N14(-3,4.5) N15(-1.5,4.5) N16(0,4.5) N17(1.5,4.5) N18(3,4.5) N19(4.5,4.5) N20(6,4.5) N21(7.5,4.5) N22(9,4.5) N23(10.5,4.5) N24(12,4.5) N25(13.5,4.5) N26(15,4.5) N27(16.5,4.5) N28(18,4.5) N29(19.5,4.5) N30(21,4.5) N31(22.5,4.5) P1(-22.5,3) P2(-21,3) P3(-19.5,3) P4(-18,3) P5(-16.5,3) P6(-15,3) P7(-13.5,3) P8(-12,3) P9(-10.5,3) P10(-9,3) P11(-7.5,3) P12(-6,3) P13(-4.5,3) P14(-3,3) P15(-1.5,3) P16(0,3) P17(1.5,3) P18(3,3) P19(4.5,3) P20(6,3) P21(7.5,3) P22(9,3) P23(10.5,3) P24(12,3) P25(13.5,3) P26(15,3) P27(16.5,3) P28(18,3) P29(19.5,3) P30(21,3) P31(22.5,3) R1(-22.5,1.5) R2(-21,1.5) R3(-19.5,1.5) R4(-18,1.5) R5(-16.5,1.5) R6(-15,1.5) R7(-13.5,1.5) R8(-12,1.5) R9(-10.5,1.5) R10(-9,1.5) R11(-7.5,1.5) R12(-6,1.5) R13(-4.5,1.5) R14(-3,1.5) R15(-1.5,1.5) R16(0,1.5) R17(1.5,1.5) R18(3,1.5) R19(4.5,1.5) R20(6,1.5) R21(7.5,1.5) R22(9,1.5) R23(10.5,1.5) R24(12,1.5) R25(13.5,1.5) R26(15,1.5) R27(16.5,1.5) R28(18,1.5) R29(19.5,1.5) R30(21,1.5) R31(22.5,1.5) T1(-22.5,0) T2(-21,0) T3(-19.5,0) T4(-18,0) T5(-16.5,0) T6(-15,0) T7(-13.5,0) T8(-12,0) T9(-10.5,0) T10(-9,0) T11(-7.5,0) T12(-6,0) T13(-4.5,0) T14(-3,0) T15(-1.5,0) T16(0,0) T17(1.5,0) T18(3,0) T19(4.5,0) T20(6,0) T21(7.5,0) T22(9,0) T23(10.5,0) T24(12,0) T25(13.5,0) T26(15,0) T27(16.5,0) T28(18,0) T29(19.5,0) T30(21,0) T31(22.5,0) U1(-22.5,-1.5) U2(-21,-1.5) U3(-19.5,-1.5) U4(-18,-1.5) U5(-16.5,-1.5) U6(-15,-1.5) U7(-13.5,-1.5) U8(-12,-1.5) U9(-10.5,-1.5) U10(-9,-1.5) U11(-7.5,-1.5) U12(-6,-1.5) U13(-4.5,-1.5) U14(-3,-1.5) U15(-1.5,-1.5) U16(0,-1.5) U17(1.5,-1.5) U18(3,-1.5) U19(4.5,-1.5) U20(6,-1.5) U21(7.5,-1.5) U22(9,-1.5) U23(10.5,-1.5) U24(12,-1.5) U25(13.5,-1.5) U26(15,-1.5) U27(16.5,-1.5) U28(18,-1.5) U29(19.5,-1.5) U30(21,-1.5) U31(22.5,-1.5) V1(-22.5,-3) V2(-21,-3) V3(-19.5,-3) V4(-18,-3) V5(-16.5,-3) V6(-15,-3) V7(-13.5,-3) V8(-12,-3) V9(-10.5,-3) V10(-9,-3) V11(-7.5,-3) V12(-6,-3) V13(-4.5,-3) V14(-3,-3) V15(-1.5,-3) V16(0,-3) V17(1.5,-3) V18(3,-3) V19(4.5,-3) V20(6,-3) V21(7.5,-3) V22(9,-3) V23(10.5,-3) V24(12,-3) V25(13.5,-3) V26(15,-3) V27(16.5,-3) V28(18,-3) V29(19.5,-3) V30(21,-3) V31(22.5,-3) W1(-22.5,-4.5) W2(-21,-4.5) W3(-19.5,-4.5) W4(-18,-4.5) W5(-16.5,-4.5) W6(-15,-4.5) W7(-13.5,-4.5) W8(-12,-4.5) W9(-10.5,-4.5) W10(-9,-4.5) W11(-7.5,-4.5) W12(-6,-4.5) W13(-4.5,-4.5) W14(-3,-4.5) W15(-1.5,-4.5) W16(0,-4.5) W17(1.5,-4.5) W18(3,-4.5) W19(4.5,-4.5) W20(6,-4.5) W21(7.5,-4.5) W22(9,-4.5) W23(10.5,-4.5) W24(12,-4.5) W25(13.5,-4.5) W26(15,-4.5) W27(16.5,-4.5) W28(18,-4.5) W29(19.5,-4.5) W30(21,-4.5) W31(22.5,-4.5) Y1(-22.5,-6) Y2(-21,-6) Y3(-19.5,-6) Y4(-18,-6) Y5(-16.5,-6) Y6(-15,-6) Y7(-13.5,-6) Y8(-12,-6) Y9(-10.5,-6) Y10(-9,-6) Y11(-7.5,-6) Y12(-6,-6) Y13(-4.5,-6) Y14(-3,-6) Y15(-1.5,-6) Y16(0,-6) Y17(1.5,-6) Y18(3,-6) Y19(4.5,-6) Y20(6,-6) Y21(7.5,-6) Y22(9,-6) Y23(10.5,-6) Y24(12,-6) Y25(13.5,-6) Y26(15,-6) Y27(16.5,-6) Y28(18,-6) Y29(19.5,-6) Y30(21,-6) Y31(22.5,-6)
Top Overlay:
  circle w0.25: c-24.405,22.5 r0.125
  lines w0.2: -23.75,-22.75 -23.75,23.75 22.75,23.75 23.75,22.75 23.75,-22.75 22.75,-23.75 -22.75,-23.75 -23.75,-22.75

## E-BGA50x50-B1024 [mm] "BGA; 1024 Balls; Body 50 x 50 mm; Pitch 1.5 mm"
height 3.5
pads (1024):
  round 0.6 smd: A1(-23.25,23.25) A2(-21.75,23.25) A3(-20.25,23.25) A4(-18.75,23.25) A5(-17.25,23.25) A6(-15.75,23.25) A7(-14.25,23.25) A8(-12.75,23.25) A9(-11.25,23.25) A10(-9.75,23.25) A11(-8.25,23.25) A12(-6.75,23.25) A13(-5.25,23.25) A14(-3.75,23.25) A15(-2.25,23.25) A16(-0.75,23.25) A17(0.75,23.25) A18(2.25,23.25) A19(3.75,23.25) A20(5.25,23.25) A21(6.75,23.25) A22(8.25,23.25) A23(9.75,23.25) A24(11.25,23.25) A25(12.75,23.25) A26(14.25,23.25) A27(15.75,23.25) A28(17.25,23.25) A29(18.75,23.25) A30(20.25,23.25) A31(21.75,23.25) A32(23.25,23.25) AA1(-23.25,-6.75) AA2(-21.75,-6.75) AA3(-20.25,-6.75) AA4(-18.75,-6.75) AA5(-17.25,-6.75) AA6(-15.75,-6.75) AA7(-14.25,-6.75) AA8(-12.75,-6.75) AA9(-11.25,-6.75) AA10(-9.75,-6.75) AA11(-8.25,-6.75) AA12(-6.75,-6.75) AA13(-5.25,-6.75) AA14(-3.75,-6.75) AA15(-2.25,-6.75) AA16(-0.75,-6.75) AA17(0.75,-6.75) AA18(2.25,-6.75) AA19(3.75,-6.75) AA20(5.25,-6.75) AA21(6.75,-6.75) AA22(8.25,-6.75) AA23(9.75,-6.75) AA24(11.25,-6.75) AA25(12.75,-6.75) AA26(14.25,-6.75) AA27(15.75,-6.75) AA28(17.25,-6.75) AA29(18.75,-6.75) AA30(20.25,-6.75) AA31(21.75,-6.75) AA32(23.25,-6.75) AB1(-23.25,-8.25) AB2(-21.75,-8.25) AB3(-20.25,-8.25) AB4(-18.75,-8.25) AB5(-17.25,-8.25) AB6(-15.75,-8.25) AB7(-14.25,-8.25) AB8(-12.75,-8.25) AB9(-11.25,-8.25) AB10(-9.75,-8.25) AB11(-8.25,-8.25) AB12(-6.75,-8.25) AB13(-5.25,-8.25) AB14(-3.75,-8.25) AB15(-2.25,-8.25) AB16(-0.75,-8.25) AB17(0.75,-8.25) AB18(2.25,-8.25) AB19(3.75,-8.25) AB20(5.25,-8.25) AB21(6.75,-8.25) AB22(8.25,-8.25) AB23(9.75,-8.25) AB24(11.25,-8.25) AB25(12.75,-8.25) AB26(14.25,-8.25) AB27(15.75,-8.25) AB28(17.25,-8.25) AB29(18.75,-8.25) AB30(20.25,-8.25) AB31(21.75,-8.25) AB32(23.25,-8.25) AC1(-23.25,-9.75) AC2(-21.75,-9.75) AC3(-20.25,-9.75) AC4(-18.75,-9.75) AC5(-17.25,-9.75) AC6(-15.75,-9.75) AC7(-14.25,-9.75) AC8(-12.75,-9.75) AC9(-11.25,-9.75) AC10(-9.75,-9.75) AC11(-8.25,-9.75) AC12(-6.75,-9.75) AC13(-5.25,-9.75) AC14(-3.75,-9.75) AC15(-2.25,-9.75) AC16(-0.75,-9.75) AC17(0.75,-9.75) AC18(2.25,-9.75) AC19(3.75,-9.75) AC20(5.25,-9.75) AC21(6.75,-9.75) AC22(8.25,-9.75) AC23(9.75,-9.75) AC24(11.25,-9.75) AC25(12.75,-9.75) AC26(14.25,-9.75) AC27(15.75,-9.75) AC28(17.25,-9.75) AC29(18.75,-9.75) AC30(20.25,-9.75) AC31(21.75,-9.75) AC32(23.25,-9.75) AD1(-23.25,-11.25) AD2(-21.75,-11.25) AD3(-20.25,-11.25) AD4(-18.75,-11.25) AD5(-17.25,-11.25) AD6(-15.75,-11.25) AD7(-14.25,-11.25) AD8(-12.75,-11.25) AD9(-11.25,-11.25) AD10(-9.75,-11.25) AD11(-8.25,-11.25) AD12(-6.75,-11.25) AD13(-5.25,-11.25) AD14(-3.75,-11.25) AD15(-2.25,-11.25) AD16(-0.75,-11.25) AD17(0.75,-11.25) AD18(2.25,-11.25) AD19(3.75,-11.25) AD20(5.25,-11.25) AD21(6.75,-11.25) AD22(8.25,-11.25) AD23(9.75,-11.25) AD24(11.25,-11.25) AD25(12.75,-11.25) AD26(14.25,-11.25) AD27(15.75,-11.25) AD28(17.25,-11.25) AD29(18.75,-11.25) AD30(20.25,-11.25) AD31(21.75,-11.25) AD32(23.25,-11.25) AE1(-23.25,-12.75) AE2(-21.75,-12.75) AE3(-20.25,-12.75) AE4(-18.75,-12.75) AE5(-17.25,-12.75) AE6(-15.75,-12.75) AE7(-14.25,-12.75) AE8(-12.75,-12.75) AE9(-11.25,-12.75) AE10(-9.75,-12.75) AE11(-8.25,-12.75) AE12(-6.75,-12.75) AE13(-5.25,-12.75) AE14(-3.75,-12.75) AE15(-2.25,-12.75) AE16(-0.75,-12.75) AE17(0.75,-12.75) AE18(2.25,-12.75) AE19(3.75,-12.75) AE20(5.25,-12.75) AE21(6.75,-12.75) AE22(8.25,-12.75) AE23(9.75,-12.75) AE24(11.25,-12.75) AE25(12.75,-12.75) AE26(14.25,-12.75) AE27(15.75,-12.75) AE28(17.25,-12.75) AE29(18.75,-12.75) AE30(20.25,-12.75) AE31(21.75,-12.75) AE32(23.25,-12.75) AF1(-23.25,-14.25) AF2(-21.75,-14.25) AF3(-20.25,-14.25) AF4(-18.75,-14.25) AF5(-17.25,-14.25) AF6(-15.75,-14.25) AF7(-14.25,-14.25) AF8(-12.75,-14.25) AF9(-11.25,-14.25) AF10(-9.75,-14.25) AF11(-8.25,-14.25) AF12(-6.75,-14.25) AF13(-5.25,-14.25) AF14(-3.75,-14.25) AF15(-2.25,-14.25) AF16(-0.75,-14.25) AF17(0.75,-14.25) AF18(2.25,-14.25) AF19(3.75,-14.25) AF20(5.25,-14.25) AF21(6.75,-14.25) AF22(8.25,-14.25) AF23(9.75,-14.25) AF24(11.25,-14.25) AF25(12.75,-14.25) AF26(14.25,-14.25) AF27(15.75,-14.25) AF28(17.25,-14.25) AF29(18.75,-14.25) AF30(20.25,-14.25) AF31(21.75,-14.25) AF32(23.25,-14.25) AG1(-23.25,-15.75) AG2(-21.75,-15.75) AG3(-20.25,-15.75) AG4(-18.75,-15.75) AG5(-17.25,-15.75) AG6(-15.75,-15.75) AG7(-14.25,-15.75) AG8(-12.75,-15.75) AG9(-11.25,-15.75) AG10(-9.75,-15.75) AG11(-8.25,-15.75) AG12(-6.75,-15.75) AG13(-5.25,-15.75) AG14(-3.75,-15.75) AG15(-2.25,-15.75) AG16(-0.75,-15.75) AG17(0.75,-15.75) AG18(2.25,-15.75) AG19(3.75,-15.75) AG20(5.25,-15.75) AG21(6.75,-15.75) AG22(8.25,-15.75) AG23(9.75,-15.75) AG24(11.25,-15.75) AG25(12.75,-15.75) AG26(14.25,-15.75) AG27(15.75,-15.75) AG28(17.25,-15.75) AG29(18.75,-15.75) AG30(20.25,-15.75) AG31(21.75,-15.75) AG32(23.25,-15.75) AH1(-23.25,-17.25) AH2(-21.75,-17.25) AH3(-20.25,-17.25) AH4(-18.75,-17.25) AH5(-17.25,-17.25) AH6(-15.75,-17.25) AH7(-14.25,-17.25) AH8(-12.75,-17.25) AH9(-11.25,-17.25) AH10(-9.75,-17.25) AH11(-8.25,-17.25) AH12(-6.75,-17.25) AH13(-5.25,-17.25) AH14(-3.75,-17.25) AH15(-2.25,-17.25) AH16(-0.75,-17.25) AH17(0.75,-17.25) AH18(2.25,-17.25) AH19(3.75,-17.25) AH20(5.25,-17.25) AH21(6.75,-17.25) AH22(8.25,-17.25) AH23(9.75,-17.25) AH24(11.25,-17.25) AH25(12.75,-17.25) AH26(14.25,-17.25) AH27(15.75,-17.25) AH28(17.25,-17.25) AH29(18.75,-17.25) AH30(20.25,-17.25) AH31(21.75,-17.25) AH32(23.25,-17.25) AJ1(-23.25,-18.75) AJ2(-21.75,-18.75) AJ3(-20.25,-18.75) AJ4(-18.75,-18.75) AJ5(-17.25,-18.75) AJ6(-15.75,-18.75) AJ7(-14.25,-18.75) AJ8(-12.75,-18.75) AJ9(-11.25,-18.75) AJ10(-9.75,-18.75) AJ11(-8.25,-18.75) AJ12(-6.75,-18.75) AJ13(-5.25,-18.75) AJ14(-3.75,-18.75) AJ15(-2.25,-18.75) AJ16(-0.75,-18.75) AJ17(0.75,-18.75) AJ18(2.25,-18.75) AJ19(3.75,-18.75) AJ20(5.25,-18.75) AJ21(6.75,-18.75) AJ22(8.25,-18.75) AJ23(9.75,-18.75) AJ24(11.25,-18.75) AJ25(12.75,-18.75) AJ26(14.25,-18.75) AJ27(15.75,-18.75) AJ28(17.25,-18.75) AJ29(18.75,-18.75) AJ30(20.25,-18.75) AJ31(21.75,-18.75) AJ32(23.25,-18.75) AK1(-23.25,-20.25) AK2(-21.75,-20.25) AK3(-20.25,-20.25) AK4(-18.75,-20.25) AK5(-17.25,-20.25) AK6(-15.75,-20.25) AK7(-14.25,-20.25) AK8(-12.75,-20.25) AK9(-11.25,-20.25) AK10(-9.75,-20.25) AK11(-8.25,-20.25) AK12(-6.75,-20.25) AK13(-5.25,-20.25) AK14(-3.75,-20.25) AK15(-2.25,-20.25) AK16(-0.75,-20.25) AK17(0.75,-20.25) AK18(2.25,-20.25) AK19(3.75,-20.25) AK20(5.25,-20.25) AK21(6.75,-20.25) AK22(8.25,-20.25) AK23(9.75,-20.25) AK24(11.25,-20.25) AK25(12.75,-20.25) AK26(14.25,-20.25) AK27(15.75,-20.25) AK28(17.25,-20.25) AK29(18.75,-20.25) AK30(20.25,-20.25) AK31(21.75,-20.25) AK32(23.25,-20.25) AL1(-23.25,-21.75) AL2(-21.75,-21.75) AL3(-20.25,-21.75) AL4(-18.75,-21.75) AL5(-17.25,-21.75) AL6(-15.75,-21.75) AL7(-14.25,-21.75) AL8(-12.75,-21.75) AL9(-11.25,-21.75) AL10(-9.75,-21.75) AL11(-8.25,-21.75) AL12(-6.75,-21.75) AL13(-5.25,-21.75) AL14(-3.75,-21.75) AL15(-2.25,-21.75) AL16(-0.75,-21.75) AL17(0.75,-21.75) AL18(2.25,-21.75) AL19(3.75,-21.75) AL20(5.25,-21.75) AL21(6.75,-21.75) AL22(8.25,-21.75) AL23(9.75,-21.75) AL24(11.25,-21.75) AL25(12.75,-21.75) AL26(14.25,-21.75) AL27(15.75,-21.75) AL28(17.25,-21.75) AL29(18.75,-21.75) AL30(20.25,-21.75) AL31(21.75,-21.75) AL32(23.25,-21.75) AM1(-23.25,-23.25) AM2(-21.75,-23.25) AM3(-20.25,-23.25) AM4(-18.75,-23.25) AM5(-17.25,-23.25) AM6(-15.75,-23.25) AM7(-14.25,-23.25) AM8(-12.75,-23.25) AM9(-11.25,-23.25) AM10(-9.75,-23.25) AM11(-8.25,-23.25) AM12(-6.75,-23.25) AM13(-5.25,-23.25) AM14(-3.75,-23.25) AM15(-2.25,-23.25) AM16(-0.75,-23.25) AM17(0.75,-23.25) AM18(2.25,-23.25) AM19(3.75,-23.25) AM20(5.25,-23.25) AM21(6.75,-23.25) AM22(8.25,-23.25) AM23(9.75,-23.25) AM24(11.25,-23.25) AM25(12.75,-23.25) AM26(14.25,-23.25) AM27(15.75,-23.25) AM28(17.25,-23.25) AM29(18.75,-23.25) AM30(20.25,-23.25) AM31(21.75,-23.25) AM32(23.25,-23.25) B1(-23.25,21.75) B2(-21.75,21.75) B3(-20.25,21.75) B4(-18.75,21.75) B5(-17.25,21.75) B6(-15.75,21.75) B7(-14.25,21.75) B8(-12.75,21.75) B9(-11.25,21.75) B10(-9.75,21.75) B11(-8.25,21.75) B12(-6.75,21.75) B13(-5.25,21.75) B14(-3.75,21.75) B15(-2.25,21.75) B16(-0.75,21.75) B17(0.75,21.75) B18(2.25,21.75) B19(3.75,21.75) B20(5.25,21.75) B21(6.75,21.75) B22(8.25,21.75) B23(9.75,21.75) B24(11.25,21.75) B25(12.75,21.75) B26(14.25,21.75) B27(15.75,21.75) B28(17.25,21.75) B29(18.75,21.75) B30(20.25,21.75) B31(21.75,21.75) B32(23.25,21.75) C1(-23.25,20.25) C2(-21.75,20.25) C3(-20.25,20.25) C4(-18.75,20.25) C5(-17.25,20.25) C6(-15.75,20.25) C7(-14.25,20.25) C8(-12.75,20.25) C9(-11.25,20.25) C10(-9.75,20.25) C11(-8.25,20.25) C12(-6.75,20.25) C13(-5.25,20.25) C14(-3.75,20.25) C15(-2.25,20.25) C16(-0.75,20.25) C17(0.75,20.25) C18(2.25,20.25) C19(3.75,20.25) C20(5.25,20.25) C21(6.75,20.25) C22(8.25,20.25) C23(9.75,20.25) C24(11.25,20.25) C25(12.75,20.25) C26(14.25,20.25) C27(15.75,20.25) C28(17.25,20.25) C29(18.75,20.25) C30(20.25,20.25) C31(21.75,20.25) C32(23.25,20.25) D1(-23.25,18.75) D2(-21.75,18.75) D3(-20.25,18.75) D4(-18.75,18.75) D5(-17.25,18.75) D6(-15.75,18.75) D7(-14.25,18.75) D8(-12.75,18.75) D9(-11.25,18.75) D10(-9.75,18.75) D11(-8.25,18.75) D12(-6.75,18.75) D13(-5.25,18.75) D14(-3.75,18.75) D15(-2.25,18.75) D16(-0.75,18.75) D17(0.75,18.75) D18(2.25,18.75) D19(3.75,18.75) D20(5.25,18.75) D21(6.75,18.75) D22(8.25,18.75) D23(9.75,18.75) D24(11.25,18.75) D25(12.75,18.75) D26(14.25,18.75) D27(15.75,18.75) D28(17.25,18.75) D29(18.75,18.75) D30(20.25,18.75) D31(21.75,18.75) D32(23.25,18.75) E1(-23.25,17.25) E2(-21.75,17.25) E3(-20.25,17.25) E4(-18.75,17.25) E5(-17.25,17.25) E6(-15.75,17.25) E7(-14.25,17.25) E8(-12.75,17.25) E9(-11.25,17.25) E10(-9.75,17.25) E11(-8.25,17.25) E12(-6.75,17.25) E13(-5.25,17.25) E14(-3.75,17.25) E15(-2.25,17.25) E16(-0.75,17.25) E17(0.75,17.25) E18(2.25,17.25) E19(3.75,17.25) E20(5.25,17.25) E21(6.75,17.25) E22(8.25,17.25) E23(9.75,17.25) E24(11.25,17.25) E25(12.75,17.25) E26(14.25,17.25) E27(15.75,17.25) E28(17.25,17.25) E29(18.75,17.25) E30(20.25,17.25) E31(21.75,17.25) E32(23.25,17.25) F1(-23.25,15.75) F2(-21.75,15.75) F3(-20.25,15.75) F4(-18.75,15.75) F5(-17.25,15.75) F6(-15.75,15.75) F7(-14.25,15.75) F8(-12.75,15.75) F9(-11.25,15.75) F10(-9.75,15.75) F11(-8.25,15.75) F12(-6.75,15.75) F13(-5.25,15.75) F14(-3.75,15.75) F15(-2.25,15.75) F16(-0.75,15.75) F17(0.75,15.75) F18(2.25,15.75) F19(3.75,15.75) F20(5.25,15.75) F21(6.75,15.75) F22(8.25,15.75) F23(9.75,15.75) F24(11.25,15.75) F25(12.75,15.75) F26(14.25,15.75) F27(15.75,15.75) F28(17.25,15.75) F29(18.75,15.75) F30(20.25,15.75) F31(21.75,15.75) F32(23.25,15.75) G1(-23.25,14.25) G2(-21.75,14.25) G3(-20.25,14.25) G4(-18.75,14.25) G5(-17.25,14.25) G6(-15.75,14.25) G7(-14.25,14.25) G8(-12.75,14.25) G9(-11.25,14.25) G10(-9.75,14.25) G11(-8.25,14.25) G12(-6.75,14.25) G13(-5.25,14.25) G14(-3.75,14.25) G15(-2.25,14.25) G16(-0.75,14.25) G17(0.75,14.25) G18(2.25,14.25) G19(3.75,14.25) G20(5.25,14.25) G21(6.75,14.25) G22(8.25,14.25) G23(9.75,14.25) G24(11.25,14.25) G25(12.75,14.25) G26(14.25,14.25) G27(15.75,14.25) G28(17.25,14.25) G29(18.75,14.25) G30(20.25,14.25) G31(21.75,14.25) G32(23.25,14.25) H1(-23.25,12.75) H2(-21.75,12.75) H3(-20.25,12.75) H4(-18.75,12.75) H5(-17.25,12.75) H6(-15.75,12.75) H7(-14.25,12.75) H8(-12.75,12.75) H9(-11.25,12.75) H10(-9.75,12.75) H11(-8.25,12.75) H12(-6.75,12.75) H13(-5.25,12.75) H14(-3.75,12.75) H15(-2.25,12.75) H16(-0.75,12.75) H17(0.75,12.75) H18(2.25,12.75) H19(3.75,12.75) H20(5.25,12.75) H21(6.75,12.75) H22(8.25,12.75) H23(9.75,12.75) H24(11.25,12.75) H25(12.75,12.75) H26(14.25,12.75) H27(15.75,12.75) H28(17.25,12.75) H29(18.75,12.75) H30(20.25,12.75) H31(21.75,12.75) H32(23.25,12.75) J1(-23.25,11.25) J2(-21.75,11.25) J3(-20.25,11.25) J4(-18.75,11.25) J5(-17.25,11.25) J6(-15.75,11.25) J7(-14.25,11.25) J8(-12.75,11.25) J9(-11.25,11.25) J10(-9.75,11.25) J11(-8.25,11.25) J12(-6.75,11.25) J13(-5.25,11.25) J14(-3.75,11.25) J15(-2.25,11.25) J16(-0.75,11.25) J17(0.75,11.25) J18(2.25,11.25) J19(3.75,11.25) J20(5.25,11.25) J21(6.75,11.25) J22(8.25,11.25) J23(9.75,11.25) J24(11.25,11.25) J25(12.75,11.25) J26(14.25,11.25) J27(15.75,11.25) J28(17.25,11.25) J29(18.75,11.25) J30(20.25,11.25) J31(21.75,11.25) J32(23.25,11.25) K1(-23.25,9.75) K2(-21.75,9.75) K3(-20.25,9.75) K4(-18.75,9.75) K5(-17.25,9.75) K6(-15.75,9.75) K7(-14.25,9.75) K8(-12.75,9.75) K9(-11.25,9.75) K10(-9.75,9.75) K11(-8.25,9.75) K12(-6.75,9.75) K13(-5.25,9.75) K14(-3.75,9.75) K15(-2.25,9.75) K16(-0.75,9.75) K17(0.75,9.75) K18(2.25,9.75) K19(3.75,9.75) K20(5.25,9.75) K21(6.75,9.75) K22(8.25,9.75) K23(9.75,9.75) K24(11.25,9.75) K25(12.75,9.75) K26(14.25,9.75) K27(15.75,9.75) K28(17.25,9.75) K29(18.75,9.75) K30(20.25,9.75) K31(21.75,9.75) K32(23.25,9.75) L1(-23.25,8.25) L2(-21.75,8.25) L3(-20.25,8.25) L4(-18.75,8.25) L5(-17.25,8.25) L6(-15.75,8.25) L7(-14.25,8.25) L8(-12.75,8.25) L9(-11.25,8.25) L10(-9.75,8.25) L11(-8.25,8.25) L12(-6.75,8.25) L13(-5.25,8.25) L14(-3.75,8.25) L15(-2.25,8.25) L16(-0.75,8.25) L17(0.75,8.25) L18(2.25,8.25) L19(3.75,8.25) L20(5.25,8.25) L21(6.75,8.25) L22(8.25,8.25) L23(9.75,8.25) L24(11.25,8.25) L25(12.75,8.25) L26(14.25,8.25) L27(15.75,8.25) L28(17.25,8.25) L29(18.75,8.25) L30(20.25,8.25) L31(21.75,8.25) L32(23.25,8.25) M1(-23.25,6.75) M2(-21.75,6.75) M3(-20.25,6.75) M4(-18.75,6.75) M5(-17.25,6.75) M6(-15.75,6.75) M7(-14.25,6.75) M8(-12.75,6.75) M9(-11.25,6.75) M10(-9.75,6.75) M11(-8.25,6.75) M12(-6.75,6.75) M13(-5.25,6.75) M14(-3.75,6.75) M15(-2.25,6.75) M16(-0.75,6.75) M17(0.75,6.75) M18(2.25,6.75) M19(3.75,6.75) M20(5.25,6.75) M21(6.75,6.75) M22(8.25,6.75) M23(9.75,6.75) M24(11.25,6.75) M25(12.75,6.75) M26(14.25,6.75) M27(15.75,6.75) M28(17.25,6.75) M29(18.75,6.75) M30(20.25,6.75) M31(21.75,6.75) M32(23.25,6.75) N1(-23.25,5.25) N2(-21.75,5.25) N3(-20.25,5.25) N4(-18.75,5.25) N5(-17.25,5.25) N6(-15.75,5.25) N7(-14.25,5.25) N8(-12.75,5.25) N9(-11.25,5.25) N10(-9.75,5.25) N11(-8.25,5.25) N12(-6.75,5.25) N13(-5.25,5.25) N14(-3.75,5.25) N15(-2.25,5.25) N16(-0.75,5.25) N17(0.75,5.25) N18(2.25,5.25) N19(3.75,5.25) N20(5.25,5.25) N21(6.75,5.25) N22(8.25,5.25) N23(9.75,5.25) N24(11.25,5.25) N25(12.75,5.25) N26(14.25,5.25) N27(15.75,5.25) N28(17.25,5.25) N29(18.75,5.25) N30(20.25,5.25) N31(21.75,5.25) N32(23.25,5.25) P1(-23.25,3.75) P2(-21.75,3.75) P3(-20.25,3.75) P4(-18.75,3.75) P5(-17.25,3.75) P6(-15.75,3.75) P7(-14.25,3.75) P8(-12.75,3.75) P9(-11.25,3.75) P10(-9.75,3.75) P11(-8.25,3.75) P12(-6.75,3.75) P13(-5.25,3.75) P14(-3.75,3.75) P15(-2.25,3.75) P16(-0.75,3.75) P17(0.75,3.75) P18(2.25,3.75) P19(3.75,3.75) P20(5.25,3.75) P21(6.75,3.75) P22(8.25,3.75) P23(9.75,3.75) P24(11.25,3.75) P25(12.75,3.75) P26(14.25,3.75) P27(15.75,3.75) P28(17.25,3.75) P29(18.75,3.75) P30(20.25,3.75) P31(21.75,3.75) P32(23.25,3.75) R1(-23.25,2.25) R2(-21.75,2.25) R3(-20.25,2.25) R4(-18.75,2.25) R5(-17.25,2.25) R6(-15.75,2.25) R7(-14.25,2.25) R8(-12.75,2.25) R9(-11.25,2.25) R10(-9.75,2.25) R11(-8.25,2.25) R12(-6.75,2.25) R13(-5.25,2.25) R14(-3.75,2.25) R15(-2.25,2.25) R16(-0.75,2.25) R17(0.75,2.25) R18(2.25,2.25) R19(3.75,2.25) R20(5.25,2.25) R21(6.75,2.25) R22(8.25,2.25) R23(9.75,2.25) R24(11.25,2.25) R25(12.75,2.25) R26(14.25,2.25) R27(15.75,2.25) R28(17.25,2.25) R29(18.75,2.25) R30(20.25,2.25) R31(21.75,2.25) R32(23.25,2.25) T1(-23.25,0.75) T2(-21.75,0.75) T3(-20.25,0.75) T4(-18.75,0.75) T5(-17.25,0.75) T6(-15.75,0.75) T7(-14.25,0.75) T8(-12.75,0.75) T9(-11.25,0.75) T10(-9.75,0.75) T11(-8.25,0.75) T12(-6.75,0.75) T13(-5.25,0.75) T14(-3.75,0.75) T15(-2.25,0.75) T16(-0.75,0.75) T17(0.75,0.75) T18(2.25,0.75) T19(3.75,0.75) T20(5.25,0.75) T21(6.75,0.75) T22(8.25,0.75) T23(9.75,0.75) T24(11.25,0.75) T25(12.75,0.75) T26(14.25,0.75) T27(15.75,0.75) T28(17.25,0.75) T29(18.75,0.75) T30(20.25,0.75) T31(21.75,0.75) T32(23.25,0.75) U1(-23.25,-0.75) U2(-21.75,-0.75) U3(-20.25,-0.75) U4(-18.75,-0.75) U5(-17.25,-0.75) U6(-15.75,-0.75) U7(-14.25,-0.75) U8(-12.75,-0.75) U9(-11.25,-0.75) U10(-9.75,-0.75) U11(-8.25,-0.75) U12(-6.75,-0.75) U13(-5.25,-0.75) U14(-3.75,-0.75) U15(-2.25,-0.75) U16(-0.75,-0.75) U17(0.75,-0.75) U18(2.25,-0.75) U19(3.75,-0.75) U20(5.25,-0.75) U21(6.75,-0.75) U22(8.25,-0.75) U23(9.75,-0.75) U24(11.25,-0.75) U25(12.75,-0.75) U26(14.25,-0.75) U27(15.75,-0.75) U28(17.25,-0.75) U29(18.75,-0.75) U30(20.25,-0.75) U31(21.75,-0.75) U32(23.25,-0.75) V1(-23.25,-2.25) V2(-21.75,-2.25) V3(-20.25,-2.25) V4(-18.75,-2.25) V5(-17.25,-2.25) V6(-15.75,-2.25) V7(-14.25,-2.25) V8(-12.75,-2.25) V9(-11.25,-2.25) V10(-9.75,-2.25) V11(-8.25,-2.25) V12(-6.75,-2.25) V13(-5.25,-2.25) V14(-3.75,-2.25) V15(-2.25,-2.25) V16(-0.75,-2.25) V17(0.75,-2.25) V18(2.25,-2.25) V19(3.75,-2.25) V20(5.25,-2.25) V21(6.75,-2.25) V22(8.25,-2.25) V23(9.75,-2.25) V24(11.25,-2.25) V25(12.75,-2.25) V26(14.25,-2.25) V27(15.75,-2.25) V28(17.25,-2.25) V29(18.75,-2.25) V30(20.25,-2.25) V31(21.75,-2.25) V32(23.25,-2.25) W1(-23.25,-3.75) W2(-21.75,-3.75) W3(-20.25,-3.75) W4(-18.75,-3.75) W5(-17.25,-3.75) W6(-15.75,-3.75) W7(-14.25,-3.75) W8(-12.75,-3.75) W9(-11.25,-3.75) W10(-9.75,-3.75) W11(-8.25,-3.75) W12(-6.75,-3.75) W13(-5.25,-3.75) W14(-3.75,-3.75) W15(-2.25,-3.75) W16(-0.75,-3.75) W17(0.75,-3.75) W18(2.25,-3.75) W19(3.75,-3.75) W20(5.25,-3.75) W21(6.75,-3.75) W22(8.25,-3.75) W23(9.75,-3.75) W24(11.25,-3.75) W25(12.75,-3.75) W26(14.25,-3.75) W27(15.75,-3.75) W28(17.25,-3.75) W29(18.75,-3.75) W30(20.25,-3.75) W31(21.75,-3.75) W32(23.25,-3.75) Y1(-23.25,-5.25) Y2(-21.75,-5.25) Y3(-20.25,-5.25) Y4(-18.75,-5.25) Y5(-17.25,-5.25) Y6(-15.75,-5.25) Y7(-14.25,-5.25) Y8(-12.75,-5.25) Y9(-11.25,-5.25) Y10(-9.75,-5.25) Y11(-8.25,-5.25) Y12(-6.75,-5.25) Y13(-5.25,-5.25) Y14(-3.75,-5.25) Y15(-2.25,-5.25) Y16(-0.75,-5.25) Y17(0.75,-5.25) Y18(2.25,-5.25) Y19(3.75,-5.25) Y20(5.25,-5.25) Y21(6.75,-5.25) Y22(8.25,-5.25) Y23(9.75,-5.25) Y24(11.25,-5.25) Y25(12.75,-5.25) Y26(14.25,-5.25) Y27(15.75,-5.25) Y28(17.25,-5.25) Y29(18.75,-5.25) Y30(20.25,-5.25) Y31(21.75,-5.25) Y32(23.25,-5.25)
Top Overlay:
  circle w0.25: c-25.655,23.25 r0.125
  lines w0.2: -25,-24 -25,25 24,25 25,24 25,-24 24,-25 -24,-25 -25,-24